# Altium footprint library dio.PcbLib: 50 footprints (part 1 of 4)
Each footprint in its own frame and in the unit in brackets; x right, y up, seen from the top. Pads: shape width x height; smd on the part's side, far side on the other; paste and mask are expansions set on the pad; w line width, h text height; cw(c..) or ccw(c..) is an arc to the next point about the centre after c.
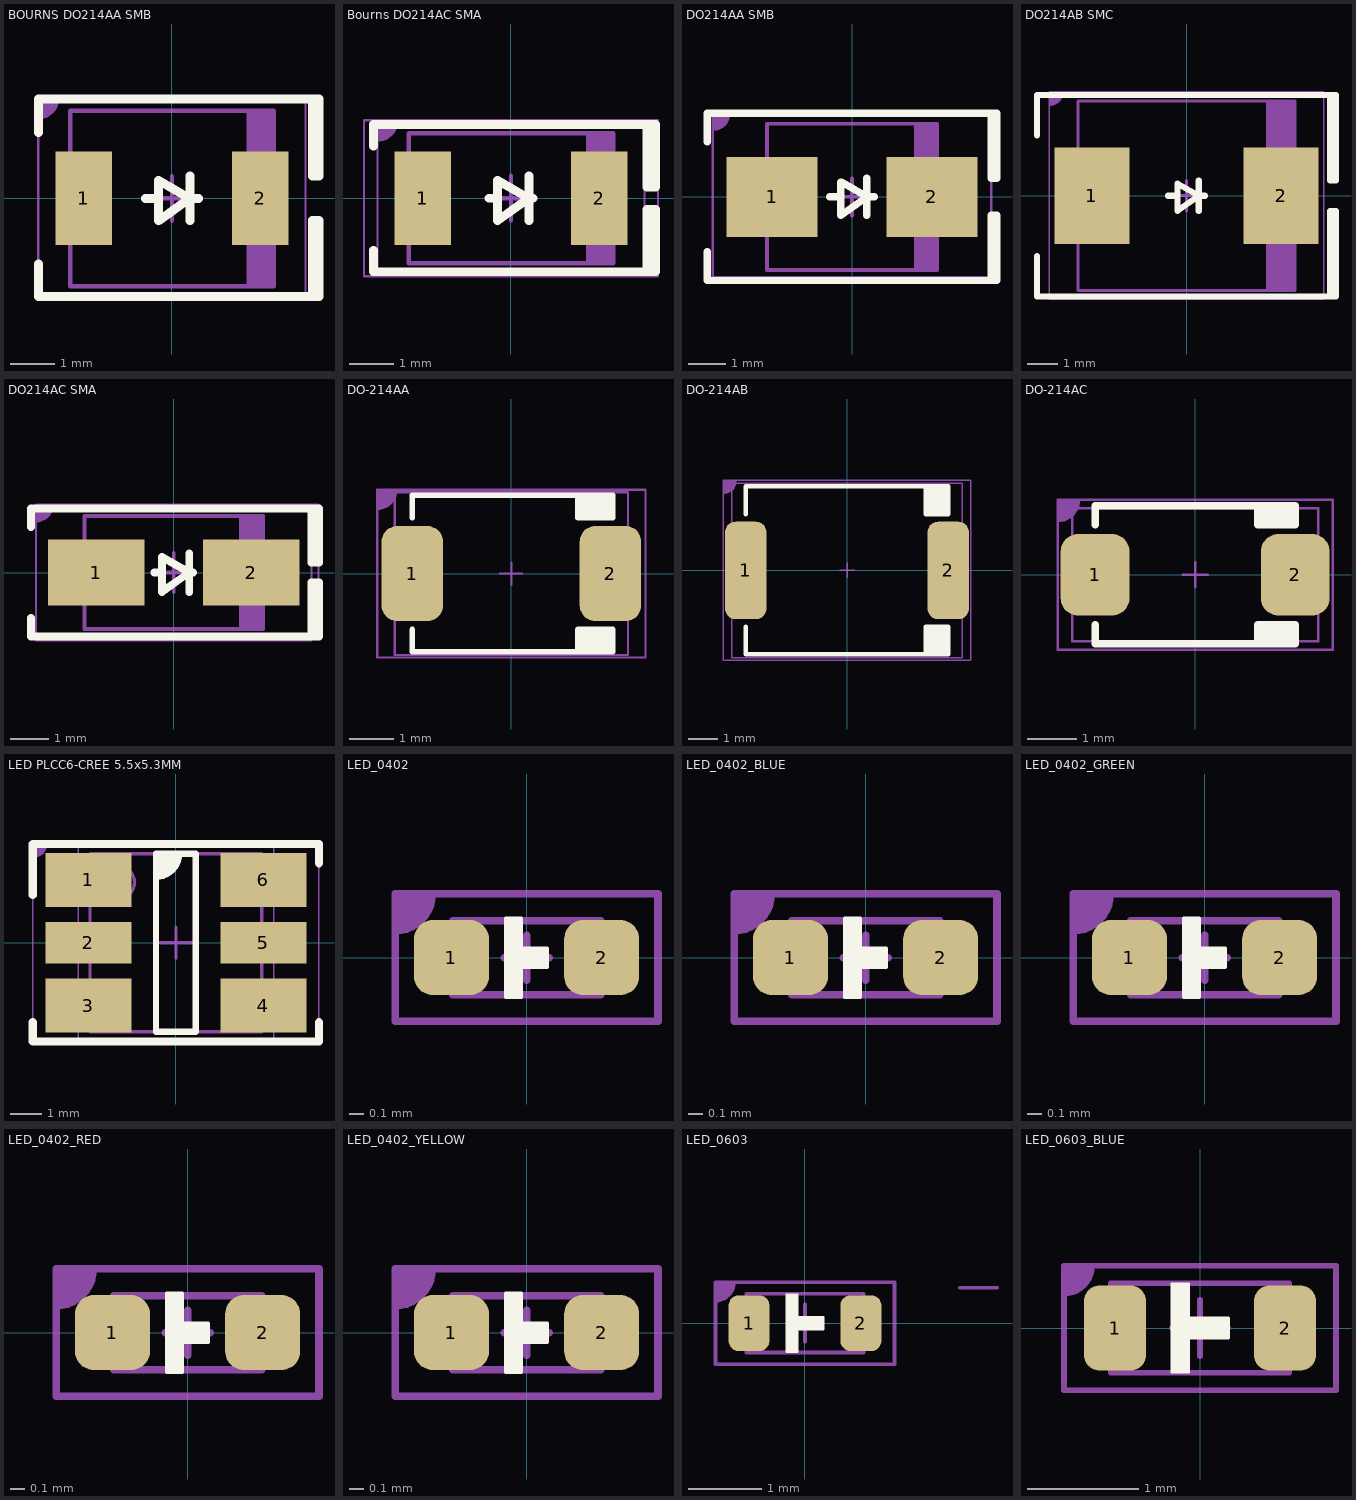
[diagram p0: the footprints below, top view; thin cyan lines are the x and y axes]

## BOURNS DO214AA SMB [mm] "Molded Diode, 2-Leads, Body 4.31x3.62mm, IPC Medium Density"
height 2.44
pads (2):
  rect 1.27x2.1 smd: 1(-1.98,0) 2(1.98,0)
Top Overlay:
  lines w0.2: -3,-1.475 -3,-2.2 3.25,-2.2 ; -3,1.475 -3,2.235 3.3,2.235 3.3,0.5 3.15,0.5 3.15,2.1 ; -0.6,0 -0.3,0 ; 0.4,-0.5 0.4,0.5 ; 0.6,0 0.4,0 ; 0.4,0 -0.3,0.4 -0.3,-0.5 0.4,0 ; 3.15,-2.2 3.3,-2.2 3.3,-0.5 3.15,-0.5 3.15,-2.2
Mechanical 13:
  rectangle: 1.67,-1.97 2.285,1.97
  lines w0.1: -2.285,-1.97 2.285,-1.97 2.285,1.97 -2.285,1.97 -2.285,-1.97
Top Component:
  region: -2.997,2.235 -2.997,1.798 -2.875,1.798 -2.819,1.854 -2.769,1.854 -2.616,2.007 -2.616,2.057 -2.56,2.113 -2.56,2.235
  lines w0.051: -2.997,1.798 ccw(c-2.997,2.235) -2.56,2.235 ; -2.997,-2.159 -2.997,2.235 2.997,2.235 2.997,-2.159 -2.997,-2.159
  text ".Designator" at -0.508,-0.33 h1.27
Component Center:
  lines w0.05: -3,-2.25 3,-2.25 3,2.25 -3,2.25 -3,-2.25
  lines w0.1: -0.5,0 0.5,0 ; 0,-0.5 0,0.5
3D body "SMB.STEP": height 2.4, standoff 0, extent -2.6,-1.799 2.6,1.8

## Bourns DO214AC SMA [mm] "Molded Diode, 2-Leads, Body 4.30x2.60mm, IPC Medium Density"
height 2.4
pads (2):
  rect 1.27x2.1 smd: 1(-1.985,0) 2(1.985,0)
Top Overlay:
  lines w0.2: -3.083,-1.175 -3.083,-1.651 3.25,-1.651 3.25,-0.254 3.056,-0.254 3.056,-1.651 ; -3.083,1.175 -3.083,1.651 3.25,1.651 3.25,0.254 3.056,0.254 3.056,1.651 ; -0.5,0 -0.3,0 ; 0.4,-0.5 0.4,0.5 ; 0.5,0 0.4,0 ; 0.4,0 -0.3,-0.5 -0.3,0.4 0.4,0
Mechanical 13:
  rectangle: 1.681,-1.46 2.3,1.46
  lines w0.1: -2.3,-1.46 2.3,-1.46 2.3,1.46 -2.3,1.46 -2.3,-1.46
Top Component:
  region: -2.997,1.727 -2.997,1.29 -2.875,1.29 -2.819,1.346 -2.769,1.346 -2.616,1.499 -2.616,1.549 -2.56,1.605 -2.56,1.727
  lines w0.051: -2.997,1.29 ccw(c-2.997,1.727) -2.56,1.727 ; -2.997,-1.727 -2.997,1.727 2.997,1.727 2.997,-1.727 -2.997,-1.727
  text ".Designator" at -0.508,-0.33 h1.27
Component Center:
  lines w0.05: -3.3,-1.75 3.3,-1.75 3.3,1.75 -3.3,1.75 -3.3,-1.75
  lines w0.1: -0.5,0 0.5,0 ; 0,-0.5 0,0.5
3D body "SMA.STEP": height 2.4, standoff 0, extent -2.6,-1.375 2.6,1.375

## DO214AA SMB [mm] "Molded Diode, 2-Leads, Body 4.31x3.62mm, IPC Medium Density"
height 2.44
pads (2):
  rect 2.45x2.15 smd: 1(-2.15,0) 2(2.15,0)
Top Overlay:
  lines w0.2: -3.9,-1.475 -3.9,-2.25 3.9,-2.25 3.9,-0.5 3.75,-0.5 3.75,-2.25 ; -3.9,1.475 -3.9,2.25 3.9,2.25 3.9,0.5 3.75,0.5 3.75,2.25 ; -0.6,0 -0.3,0 ; 0.4,-0.5 0.4,0.5 ; 0.6,0 0.4,0 ; 0.4,0 -0.3,0.4 -0.3,-0.5 0.4,0
Mechanical 13:
  rectangle: 1.67,-1.97 2.285,1.97
  lines w0.1: -2.285,-1.97 2.285,-1.97 2.285,1.97 -2.285,1.97 -2.285,-1.97
Top Component:
  region: -3.734,2.235 -3.734,1.798 -3.612,1.798 -3.556,1.854 -3.505,1.854 -3.353,2.007 -3.353,2.057 -3.297,2.113 -3.297,2.235
  lines w0.051: -3.734,1.798 ccw(c-3.734,2.235) -3.297,2.235 ; -3.734,-2.159 -3.734,2.235 3.734,2.235 3.734,-2.159 -3.734,-2.159
  text ".Designator" at -0.508,-0.33 h1.27
Component Center:
  lines w0.05: -3.75,-2.25 3.75,-2.25 3.75,2.25 -3.75,2.25 -3.75,-2.25
  lines w0.1: -0.5,0 0.5,0 ; 0,-0.5 0,0.5
3D body "SMB.STEP": height 2.4, standoff 0, extent -2.6,-1.799 2.6,1.8

## DO214AB SMC [mm] "Molded Diode, 2-Leads, Body 6.85x5.90mm, IPC Medium Density"
height 2.62
pads (2):
  rect 2.45x3.15 smd: 1(-3.1,0) 2(3.1,0)
Top Overlay:
  lines w0.2: -4.9,-1.975 -4.9,-3.3 4.9,-3.3 4.9,-0.5 4.7,-0.5 4.7,-3.3 ; -4.9,1.975 -4.9,3.3 4.9,3.3 4.9,0.5 4.7,0.5 4.7,3.3 ; -0.6,0 -0.3,0 ; 0.4,-0.5 0.4,0.5 ; 0.6,0 0.4,0 ; 0.4,0 -0.3,0.4 -0.3,-0.5 0.4,0
Mechanical 13:
  rectangle: 2.599,-3.11 3.555,3.11
  lines w0.1: -3.555,-3.11 -3.555,3.11 3.555,3.11 3.555,-3.11 -3.555,-3.11
Top Component:
  region: -4.496,3.404 -4.496,2.967 -4.374,2.967 -4.318,3.023 -4.267,3.023 -4.115,3.175 -4.115,3.226 -4.059,3.282 -4.059,3.404
  lines w0.051: -4.496,2.967 ccw(c-4.496,3.404) -4.059,3.404 ; -4.496,-3.353 -4.496,3.404 4.496,3.404 4.496,-3.353 -4.496,-3.353
  text ".Designator" at -0.508,-0.33 h1.27
Component Center:
  lines w0.05: -4.5,-3.4 4.5,-3.4 4.5,3.4 -4.5,3.4 -4.5,-3.4
  lines w0.1: -0.5,0 0.5,0 ; 0,-0.5 0,0.5
3D body "SMC.STEP": height 2.6, standoff 0, extent -3.97,-2.952 3.97,2.952

## DO214AC SMA [mm] "Molded Diode, 2-Leads, Body 4.30x2.60mm, IPC Medium Density"
height 2.4
pads (2):
  rect 2.5x1.7 smd: 1(-2,0) 2(2,0)
Top Overlay:
  lines w0.2: -3.683,-1.175 -3.683,-1.651 3.75,-1.651 3.75,-0.254 3.556,-0.254 3.556,-1.651 ; -3.683,1.175 -3.683,1.651 3.75,1.651 3.75,0.254 3.556,0.254 3.556,1.651 ; -0.5,0 -0.3,0 ; 0.4,-0.5 0.4,0.5 ; 0.5,0 0.4,0 ; 0.4,0 -0.3,0.4 -0.3,-0.5 0.4,0
Mechanical 13:
  rectangle: 1.681,-1.46 2.3,1.46
  lines w0.1: -2.3,-1.46 -2.3,1.46 2.3,1.46 2.3,-1.46 -2.3,-1.46
Top Component:
  region: -3.556,1.753 -3.556,1.316 -3.434,1.316 -3.378,1.372 -3.327,1.372 -3.175,1.524 -3.175,1.575 -3.119,1.631 -3.119,1.753
  lines w0.051: -3.556,1.316 ccw(c-3.556,1.753) -3.119,1.753 ; -3.556,-1.702 -3.556,1.753 3.734,1.753 3.734,1.575 3.734,-1.702 -3.556,-1.702
  text ".Designator" at -0.508,-0.33 h1.27
Component Center:
  lines w0.05: -3.556,-1.75 3.556,-1.75 3.556,1.75 -3.556,1.75 -3.556,-1.75
  lines w0.1: -0.5,0 0.5,0 ; 0,-0.5 0,0.5
3D body "SMA.STEP": height 2.4, standoff 0, extent -2.6,-1.375 2.6,1.375

## DO-214AA [mil] "SMB"
height 104.33
pads (2):
  rrect50% 55x85 smd: 1(-88.58,0) 2(88.58,0)
Top Overlay:
  region: 59.5,50 59.5,70 90.58,70 90.58,50
  region: 59.5,-50 59.5,-70 90.58,-70 90.58,-50
  lines w5: -88.58,-50 -88.58,-70 90.58,-70 90.58,-50 59.5,-50 59.5,-70 ; -88.58,50 -88.58,70 90.58,70 90.58,50 59.5,50 59.5,70
Mechanical 13:
  lines w2: -10,0 10,0 ; 0,-10 0,10 ; -104.33,-72.84 -104.33,72.84 104.33,72.84 104.33,-72.84 -104.33,-72.84
Top Component:
  region: -120,75 -120,57.8 -115.2,57.8 -113,60 -111,60 -105,66 -105,68 -102.8,70.2 -102.8,75
  lines w2: -120,57.8 ccw(c-120,75) -102.8,75 ; -120,-75 120,-75 120,75 -120,75 -120,-75
  text ".Designator" at -20,-13 h50
3D body "User Library-DO-214AA_SMB.STEP": height 86.65, standoff -1.97, extent -104.33,-72.84 104.33,72.84

## DO-214AB [mil] "SMC"
height 98.43
pads (2):
  rrect50% 55x130 smd: 1(-135,0) 2(135,0)
Top Overlay:
  rectangle: 105,74.8 135,112.05
  rectangle: 105,-112.05 135,-74.8
  lines w6: -135,-75 -135,-112.05 135,-112.05 135,-74.8 105,-74.8 105,-112.05 ; -135,74.8 -135,112.05 135,112.05 135,74.8 105,74.8 105,112.05
Mechanical 13:
  lines w2: -10,0 10,0 ; 0,-10 0,10 ; -153.54,-116.14 -153.54,116.14 153.54,116.14 153.54,-116.14 -153.54,-116.14
Top Component:
  region: -165,120 -165,102.8 -160.2,102.8 -158,105 -156,105 -150,111 -150,113 -147.8,115.2 -147.8,120
  lines w2: -165,102.8 ccw(c-165,120) -147.8,120 ; -165,-120 165,-120 165,120 -165,120 -165,-120
  text ".Designator" at -24,-16 h60
3D body "User Library-DO-214AB-SMC.STEP": height 94.53, standoff -1.97, extent -153.54,-116.14 153.54,116.14

## DO-214AC [mil] "SMA"
pads (2):
  rrect50% 55x65 smd: 1(-80,0) 2(80,0)
Top Overlay:
  region: 50,40 50,55 80,55 80,40
  region: 50,-40 50,-55 80,-55 80,-40
  lines w6: -80,-40 -80,-55 80,-55 80,-40 50,-40 50,-55 ; -80,40 -80,55 80,55 80,40 50,40 50,55
Mechanical 13:
  lines w2: -10.01,-0.01 9.99,-0.01 ; -0.01,-10.01 -0.01,9.99 ; -98.44,-53.16 98.41,-53.16 98.41,53.14 -98.44,53.14 -98.44,-53.16
Top Component:
  region: -110,60 -110,42.8 -105.2,42.8 -103,45 -101,45 -95,51 -95,53 -92.8,55.2 -92.8,60
  lines w2: -110,42.8 ccw(c-110,60) -92.8,60 ; -110,-60 -110,60 110,60 110,-60 -110,-60
  text ".Designator" at -20,-13 h50
3D body "User Library-DO-214AC_SMA.STEP": height 84.69, standoff -1.97, extent -98.44,-53.16 98.41,53.14

## LED PLCC6-CREE 5.5x5.3MM [mm] "SOJ, 6-Leads, Body 5.60x5.50mm, Pitch 1.80mm, IPC Medium Density"
height 2.6
pads (6):
  rect 2.7x1.7 smd: 1(-2.75,1.975) 3(-2.75,-1.975) 4(2.75,-1.975) 6(2.75,1.975)
  rect 2.7x1.3 smd: 2(-2.75,0) 5(2.75,0)
Top Overlay:
  region: -0.625,2.8 0.125,2.8 0.125,2.475 -0.275,2.075 -0.625,2.075
  lines w0.2: -0.625,2.075 ccw(c-0.625,2.8) 0.1,2.8 ; -0.625,-2.8 -0.625,2.8 0.625,2.8 0.625,-2.8 -0.625,-2.8
  lines w0.254: -4.5,-2.5 -4.5,-3.1 4.5,-3.1 4.5,-2.5 ; -4.5,1.5 -4.5,3.1 4.5,3.1 4.5,2.5
Mechanical 13:
  circle w0.1: c-1.8,1.9 r0.5
  lines w0.1: -2.7,-2.8 -2.7,2.8 2.7,2.8 2.7,-2.8 -2.7,-2.8
Top Component:
  region: -4.496,3.124 -4.496,2.687 -4.374,2.687 -4.318,2.743 -4.267,2.743 -4.115,2.896 -4.115,2.946 -4.059,3.002 -4.059,3.124
  lines w0.051: -4.496,2.687 ccw(c-4.496,3.124) -4.059,3.124 ; -4.496,-3.099 -4.496,3.124 4.496,3.124 4.496,-3.099 -4.496,-3.099
  text ".Designator" at -0.61,-0.406 h1.52
Component Center:
  lines w0.05: -3.075,-3.05 3.075,-3.05 3.075,3.05 -3.075,3.05 -3.075,-3.05
  lines w0.1: -0.5,0 0.5,0 ; 0,-0.5 0,0.5
3D body "Cree SLV6A.STEP": height 2.6, standoff 0, extent -2.75,-2.75 2.75,2.75

## LED_0402 [mil]
height 31.5
pads (2):
  rrect50% 20x20 smd: 1(-20,0) 2(20,0)
Top Overlay:
  region: -5.5,10.5 -1.5,10.5 -1.5,2.5 5.5,2.5 5.5,-2.5 -1.5,-2.5 -1.5,-10.5 -5.5,-10.5
  lines w1: -5.5,-10.5 -5.5,10.5 -1.5,10.5 -1.5,2.5 5.5,2.5 5.5,-2.5 -1.5,-2.5 -1.5,-10.5 -5.5,-10.5
Mechanical 13:
  lines w2: -6,0 6,0 ; 0,-6 0,6 ; -19.69,-9.84 19.68,-9.84 19.68,9.84 -19.69,9.84 -19.69,-9.84
Top Component:
  region: -35,17 -35,7.1 -34.1,8 -30,8 -25.1,12.9 -25.1,17
  lines w2: -35,7.1 ccw(c-35,17) -25.1,17 ; -35,-17 35,-17 35,17 -35,17 -35,-17
  text ".Designator" at -8,-5 h20
3D body "LED 0402 Lens WHITE.STEP": height 8.07, standoff 2.95, extent -13.77,-9.83 13.79,9.85
3D body "LED 0402 Base WHITE.STEP": height 3.94, standoff 0, extent -19.68,-9.83 19.69,9.86

## LED_0402_BLUE [mil]
height 31.5
pads (2):
  rrect50% 20x20 smd: 1(-20,0) 2(20,0)
Top Overlay:
  region: -5.5,10.5 -1.5,10.5 -1.5,2.5 5.5,2.5 5.5,-2.5 -1.5,-2.5 -1.5,-10.5 -5.5,-10.5
  lines w1: -5.5,-10.5 -5.5,10.5 -1.5,10.5 -1.5,2.5 5.5,2.5 5.5,-2.5 -1.5,-2.5 -1.5,-10.5 -5.5,-10.5
Mechanical 13:
  lines w2: -6,0 6,0 ; 0,-6 0,6 ; -19.69,-9.84 19.68,-9.84 19.68,9.84 -19.69,9.84 -19.69,-9.84
Top Component:
  region: -35,17 -35,7.1 -34.1,8 -30,8 -25.1,12.9 -25.1,17
  lines w2: -35,7.1 ccw(c-35,17) -25.1,17 ; -35,-17 -35,17 35,17 35,-17 -35,-17
  text ".Designator" at -8,-5 h20
3D body "LED 0402 Base BLUE.STEP": height 3.94, standoff 0, extent -19.68,-9.84 19.69,9.85
3D body "LED 0402 Lens BLUE.STEP": height 8.07, standoff 2.95, extent -13.77,-9.84 13.79,9.85

## LED_0402_GREEN [mil]
height 31.5
pads (2):
  rrect50% 20x20 smd: 1(-20,0) 2(20,0)
Top Overlay:
  region: -5.5,10.5 -1.5,10.5 -1.5,2.5 5.5,2.5 5.5,-2.5 -1.5,-2.5 -1.5,-10.5 -5.5,-10.5
  lines w1: -5.5,-10.5 -5.5,10.5 -1.5,10.5 -1.5,2.5 5.5,2.5 5.5,-2.5 -1.5,-2.5 -1.5,-10.5 -5.5,-10.5
Mechanical 13:
  lines w2: -6,0 6,0 ; 0,-6 0,6 ; -19.69,-9.84 19.68,-9.84 19.68,9.84 -19.69,9.84 -19.69,-9.84
Top Component:
  region: -35,17 -35,7.1 -34.1,8 -30,8 -25.1,12.9 -25.1,17
  lines w2: -35,7.1 ccw(c-35,17) -25.1,17 ; -35,-17 35,-17 35,17 -35,17 -35,-17
  text ".Designator" at -8,-5 h20
3D body "LED 0402 Base GREEN.STEP": height 3.94, standoff 0, extent -19.68,-9.84 19.69,9.85
3D body "LED 0402 Lens GREEN.STEP": height 8.07, standoff 2.95, extent -13.77,-9.84 13.79,9.85

## LED_0402_RED [mil]
height 31.5
pads (2):
  rrect50% 20x20 smd: 1(-20,0) 2(20,0)
Top Overlay:
  region: -5.5,10.5 -1.5,10.5 -1.5,2.5 5.5,2.5 5.5,-2.5 -1.5,-2.5 -1.5,-10.5 -5.5,-10.5
  lines w1: -5.5,-10.5 -1.5,-10.5 -1.5,-2.5 5.5,-2.5 5.5,2.5 -1.5,2.5 -1.5,10.5 -5.5,10.5 -5.5,-10.5
Mechanical 13:
  lines w2: -6,0 6,0 ; 0,-6 0,6 ; -19.69,-9.84 -19.69,9.84 19.68,9.84 19.68,-9.84 -19.69,-9.84
Top Component:
  region: -35,17 -35,7.1 -34.1,8 -30,8 -25.1,12.9 -25.1,17
  lines w2: -35,7.1 ccw(c-35,17) -25.1,17 ; -35,-17 -35,17 35,17 35,-17 -35,-17
  text ".Designator" at -8,-5 h20
3D body "LED 0402 Base RED.STEP": height 3.94, standoff 0, extent -19.68,-9.83 19.7,9.85
3D body "LED 0402 Lens RED.STEP": height 8.07, standoff 2.95, extent -13.77,-9.83 13.79,9.85

## LED_0402_YELLOW [mil]
height 31.5
pads (2):
  rrect50% 20x20 smd: 1(-20,0) 2(20,0)
Top Overlay:
  region: -5.5,10.5 -1.5,10.5 -1.5,2.5 5.5,2.5 5.5,-2.5 -1.5,-2.5 -1.5,-10.5 -5.5,-10.5
  lines w1: -5.5,-10.5 -1.5,-10.5 -1.5,-2.5 5.5,-2.5 5.5,2.5 -1.5,2.5 -1.5,10.5 -5.5,10.5 -5.5,-10.5
Mechanical 13:
  lines w2: -6,0 6,0 ; 0,-6 0,6 ; -19.69,-9.84 -19.69,9.84 19.68,9.84 19.68,-9.84 -19.69,-9.84
Top Component:
  region: -35,17 -35,7.1 -34.1,8 -30,8 -25.1,12.9 -25.1,17
  lines w2: -35,7.1 ccw(c-35,17) -25.1,17 ; -35,-17 35,-17 35,17 -35,17 -35,-17
  text ".Designator" at -8,-5 h20
3D body "LED 0402 Lens YELLOW.STEP": height 8.07, standoff 2.95, extent -13.77,-9.83 13.79,9.85
3D body "LED 0402 Base YELLOW.STEP": height 3.94, standoff 0, extent -19.68,-9.83 19.7,9.85

## LED_0603 [mil]
height 31.5
pads (2):
  rrect50% 22x30 smd: 1(-30,0) 2(30,0)
Top Overlay:
  region: -10,15.5 -4,15.5 -4,3.5 10,3.5 10,-3.5 -4,-3.5 -4,-15.5 -10,-15.5
  lines w1: -10,-15.5 -4,-15.5 -4,-3.5 10,-3.5 10,3.5 -4,3.5 -4,15.5 -10,15.5 -10,-15.5
Mechanical 13:
  lines w2: 0,-10 0,10 ; 83,19 103,19 ; -31.5,-15.75 31.5,-15.75 31.5,15.75 -31.5,15.75 -31.5,-15.75
Top Component:
  region: -48,22 -48,12.1 -47.1,13 -43,13 -38.1,17.9 -38.1,22
  lines w2: -48,12.1 ccw(c-48,22) -38.1,22 ; -48,-22 -48,22 48,22 48,-22 -48,-22
  text ".Designator" at 81,11 h30
3D body "LED 0603 Lens WHITE.STEP": height 20.87, standoff 7.09, extent -21.65,-15.74 21.66,15.76
3D body "LED 0603 Base WHITE.STEP": height 11.02, standoff 0, extent -31.49,-15.74 31.5,15.76

## LED_0603_BLUE [mil]
height 31.5
pads (2):
  rrect50% 22x30 smd: 1(-30,0) 2(30,0)
Top Overlay:
  region: -10,15.5 -4,15.5 -4,3.5 10,3.5 10,-3.5 -4,-3.5 -4,-15.5 -10,-15.5
  lines w1: -10,-15.5 -4,-15.5 -4,-3.5 10,-3.5 10,3.5 -4,3.5 -4,15.5 -10,15.5 -10,-15.5
Mechanical 13:
  lines w2: -10,0 10,0 ; 0,-10 0,10 ; -31.5,-15.75 31.5,-15.75 31.5,15.75 -31.5,15.75 -31.5,-15.75
Top Component:
  region: -48,22 -48,12.1 -47.1,13 -43,13 -38.1,17.9 -38.1,22
  lines w2: -48,12.1 ccw(c-48,22) -38.1,22 ; -48,-22 -48,22 48,22 48,-22 -48,-22
  text ".Designator" at -12,-8 h30
3D body "LED 0603 Lens BLUE.STEP": height 20.87, standoff 7.09, extent -21.65,-15.74 21.66,15.75
3D body "LED 0603 Base BLUE.STEP": height 11.02, standoff 0, extent -31.49,-15.74 31.5,15.76